# Altium footprint library KN2CLib.PcbLib: 180 footprints (part 12 of 12)
Each footprint in its own frame and in the unit in brackets; x right, y up, seen from the top. Pads: shape width x height; smd on the part's side, far side on the other; paste and mask are expansions set on the pad; w line width, h text height; cw(c..) or ccw(c..) is an arc to the next point about the centre after c.
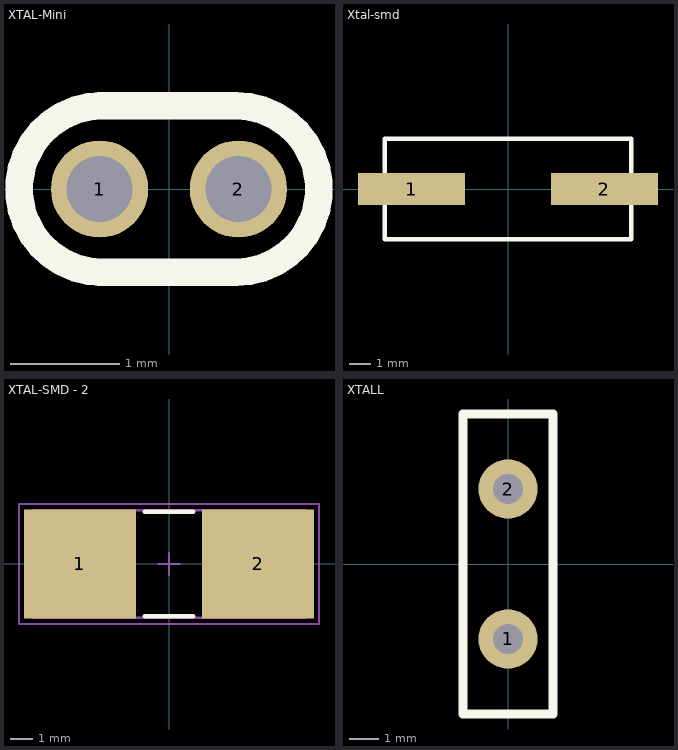
[diagram p11: the footprints below, top view; thin cyan lines are the x and y axes]

## XTAL-Mini [mil] "Xtal mini for clock"
pads (2):
  round 35 hole 23.62: 1(-25,0) 2(25,0)
Top Overlay:
  lines w10: -25,-30 24,-30 ccw(c24,0) 24,30 -25,30 ; -24,-30 cw(c-24,0) -24,30

## Xtal-smd [mm]
pads (2):
  rect 5x1.5 smd: 1(-4.5,0) 2(4.5,0)
Top Overlay:
  lines w0.203: -5.75,-2.35 -5.75,2.35 5.75,2.35 5.75,-2.35 -5.75,-2.35

## XTAL-SMD - 2 [mm] "HC-49US"
height 4.2
pads (2):
  rect 5.1x4.95 smd: 1(-4.05,0) 2(4.05,0)
Top Overlay:
  lines w0.2: -1.1,-2.375 1.1,-2.375 ; -1.1,2.375 1.1,2.375
Mechanical 13:
  lines w0.1: -6.175,-2.45 -6.175,2.45 6.175,2.45 6.175,-2.45 -6.175,-2.45
Mechanical 15:
  lines w0.1: -0.5,0 0.5,0 ; 0,-0.5 0,0.5 ; -6.825,-2.725 -6.825,2.725 6.825,2.725 6.825,-2.725 -6.825,-2.725
3D body: height 4.2, standoff 0, extent -6.175,-2.45 6.175,2.45

## XTALL [mm]
pads (2):
  round 2 hole 1: 1(0,-2.54) 2(0,2.54)
Top Overlay:
  lines w0.305: -1.524,-5.08 1.524,-5.08 1.524,5.08 -1.524,5.08 -1.524,-5.08